# Altium footprint library Jumper.PcbLib: 33 footprints (part 3 of 3)
Each footprint in its own frame and in the unit in brackets; x right, y up, seen from the top. Pads: shape width x height; smd on the part's side, far side on the other; paste and mask are expansions set on the pad; w line width, h text height; cw(c..) or ccw(c..) is an arc to the next point about the centre after c.
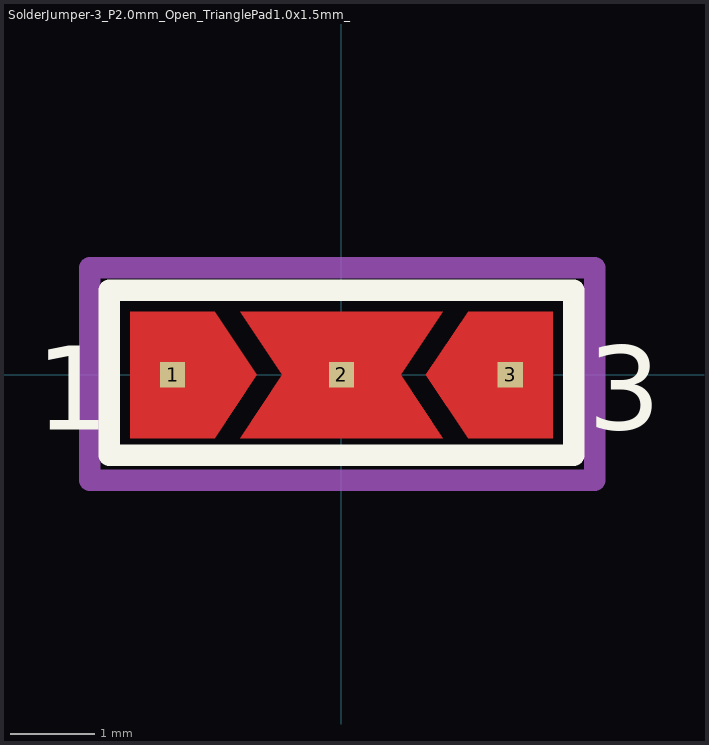
[diagram p2: the footprint, top view; thin cyan lines are the x and y axes]

## SolderJumper-3_P2.0mm_Open_TrianglePad1.0x1.5mm_NumberLabels [mm]
pads (3):
  rect 0.3x0.3 smd: 1(-2,0) 2(0,0) 3(2,0)
F.Cu:
  region: 2.5,-0.75 1.5,-0.75 1,0 1.5,0.75 2.5,0.75
  region: 0.7,0 1.2,-0.75 -1.2,-0.75 -0.7,0 -1.2,0.75 1.2,0.75
  region: -1,0 -1.5,-0.75 -2.5,-0.75 -2.5,0.75 -1.5,0.75
F.SilkS:
  lines w0.254: -2.75,-0.95 2.75,-0.95 2.75,1 -2.75,1 -2.75,-0.95
  text "3" at 2.917,-0.65 h1
  text "1" at -3.619,-0.65 h1
F.Mask:
  region: 2.5,-0.75 1.5,-0.75 1,0 1.5,0.75 2.5,0.75
  region: -1,0 -1.5,-0.75 -2.5,-0.75 -2.5,0.75 -1.5,0.75
  lines w0.254: -2.5,-0.75 2.5,-0.75 2.5,0.75 -2.5,0.75 -2.5,-0.75
Top Courtyard:
  lines w0.254: -2.98,-1.25 3,-1.25 3,1.27 -2.98,1.27 -2.98,-1.25
Top Designator:
  text ".Designator" at -7.635,-0.498 h1.52